# EAGLE library part SWITCH_LEVER (library zz-m-pad-2.1)
ALPS's HORIZONTAL TYPE SEESAW AND PUSH OPERATION SWITCHES SLLB Series Features: Rating: 10mA @ 5VDC Lever/Push function operating force: 0.65±0.3N/2±1N Operating life: 100,000 cycles For selecting menus of PDA's, mobile phones, laptop computers, and electronic organizers For selecting menus of remote controllers Single knob allows CW, CCW, and push operations Lever Color: Black except for SLLB120200 and SLLB220200 which are gray. Please send any comments to: messi@users.sourceforge.net
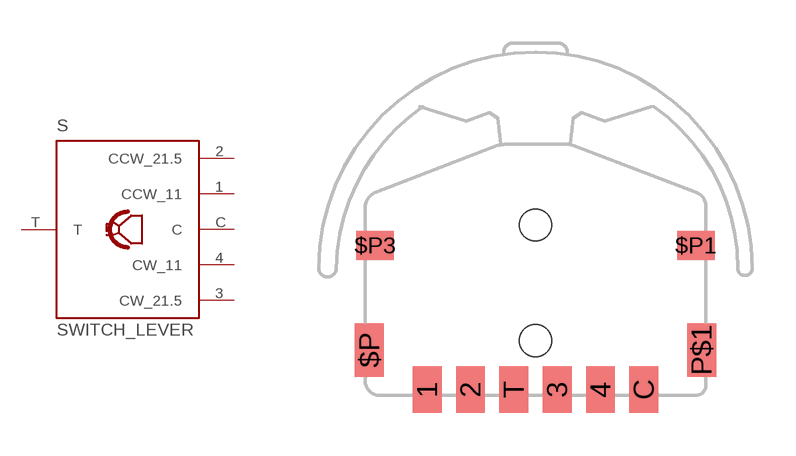
[diagram p147: symbol with the pads of ALPS_SLLB120_220; footprint ALPS_SLLB120_220]

Designator prefix S

## SWITCH_LEVER  [ALPS_SLLB120_220]
1  CCW_11  out
2  CCW_21.5  out
3  CW_21.5  out
4  CW_11  out
C  C  out
T  T  in

## Footprint ALPS_SLLB120_220 (pad centres in mm)
ALPS's Lever and Push Operation Switch SLLB Series
smd 1 x 1.6: 1 -3.75,-3.7; 2 -2.25,-3.7; 3 0.75,-3.7; 4 2.25,-3.7; C 3.75,-3.7; T -0.75,-3.7
smd 1 x 1.85: $P -5.75,-2.325; P$1 5.75,-2.325
smd 1.3 x 1: $P1 5.55,1.3; $P3 -5.55,1.3
hole 1.1 at 0,2
hole 1.1 at 0,-2